# Altium footprint library SSR.PcbLib: 1 footprints
Each footprint in its own frame and in the unit in brackets; x right, y up, seen from the top. Pads: shape width x height; smd on the part's side, far side on the other; paste and mask are expansions set on the pad; w line width, h text height; cw(c..) or ccw(c..) is an arc to the next point about the centre after c.
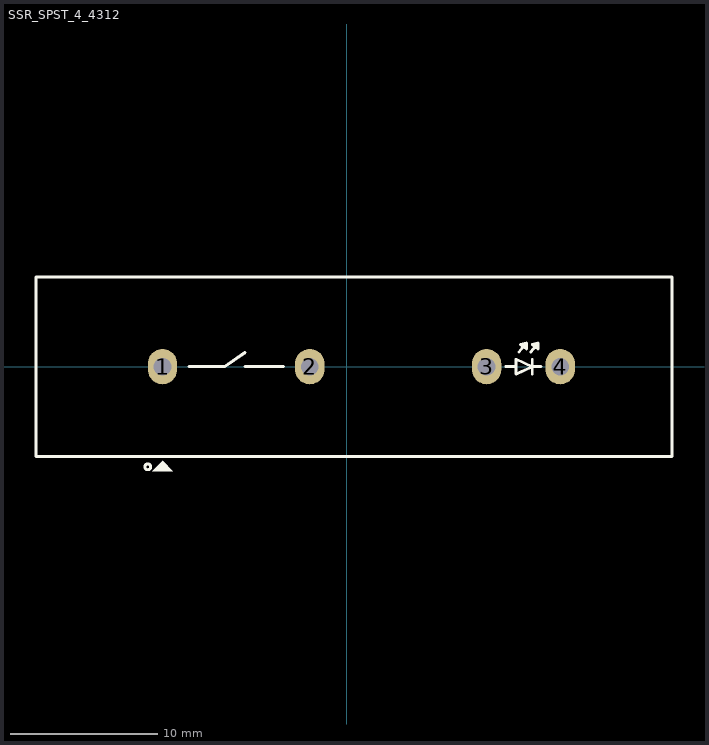
[diagram p0: the footprint, top view; thin cyan lines are the x and y axes]

## SSR_SPST_4_4312 [mm] "RELAY, SPST, 43X12X25mm, SSR-D3805HK"
height 25
pads (4):
  oval 2x2.4 hole 1.2: 1(-12.5,0) 2(-2.5,0) 3(9.5,0) 4(14.5,0)
Top Overlay:
  circle w0.2: c-13.5,-6.8 r0.2
  region: -13.2,-7.1 -11.8,-7.1 -12.5,-6.4
  lines w0.2: -10.7,0 -8.3,0 -6.904,0.96 ; -6.9,0 -4.3,0 ; 10.8,0 11.5,0 ; 11.7,1 12.2,1.6 ; 12.5,1 13,1.6 ; 12.6,-0.5 12.6,0.5 ; 13.2,0 12.6,0 ; 12.2,1.6 11.8,1.5 12.2,1.2 12.2,1.6 ; 12.6,0 11.5,0.5 11.5,-0.5 12.6,0 ; 13,1.6 13,1.2 12.6,1.5 13,1.6 ; -21.1,-6.1 22.1,-6.1 22.1,6.1 -21.1,6.1 -21.1,-6.1
3D body "SSR-D3808HK.step": height 25.5, standoff -8, extent -21,-6 22,6